# EAGLE library part 6EU7-P (library pedals-tubes)
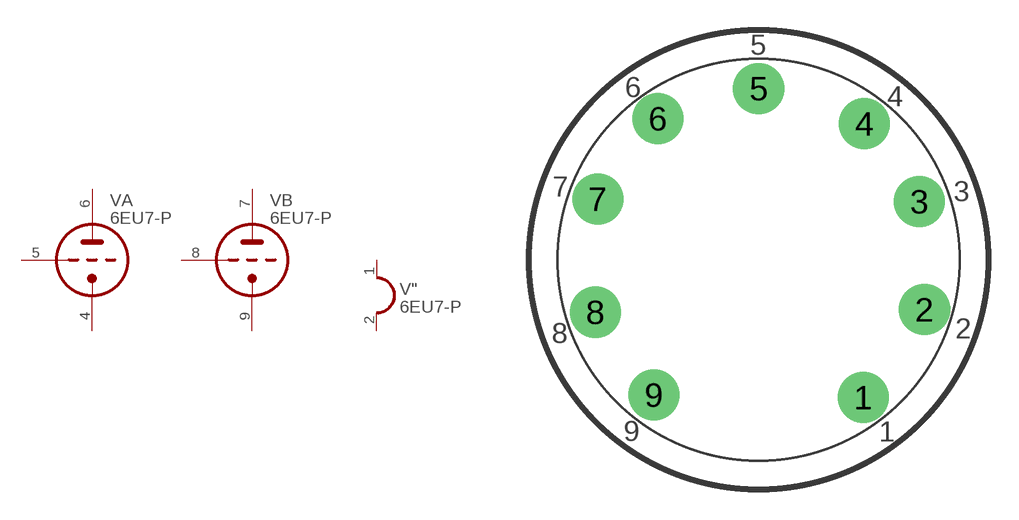
[diagram p30: symbol with the pads of NOVAL; footprint NOVAL]

Designator prefix V; gates A=TRIODE B=TRIODE "=HEATER_1

## 6EU7-P  [NOVAL]
1  ":H1  pas
2  ":H2  pas
4  A:TK  pas
5  A:TG  pas
6  A:TA  pas
7  B:TA  pas
8  B:TG  pas
9  B:TK  pas

## Footprint NOVAL (pad centres in mm)
drill 1.422 pad 2.54: 1 5.207,-6.858; 2 8.254,-2.484; 3 8.004,2.893; 4 5.258,6.77; 5 0,8.524; 6 -5.004,7.024; 7 -8.004,3.02; 8 -8.127,-2.611; 9 -5.207,-6.731